# Altium schematic symbol library PCBFeatures.SchLib: 20 symbols
Pins are listed as number, name and electrical type; pins without a type are passive.

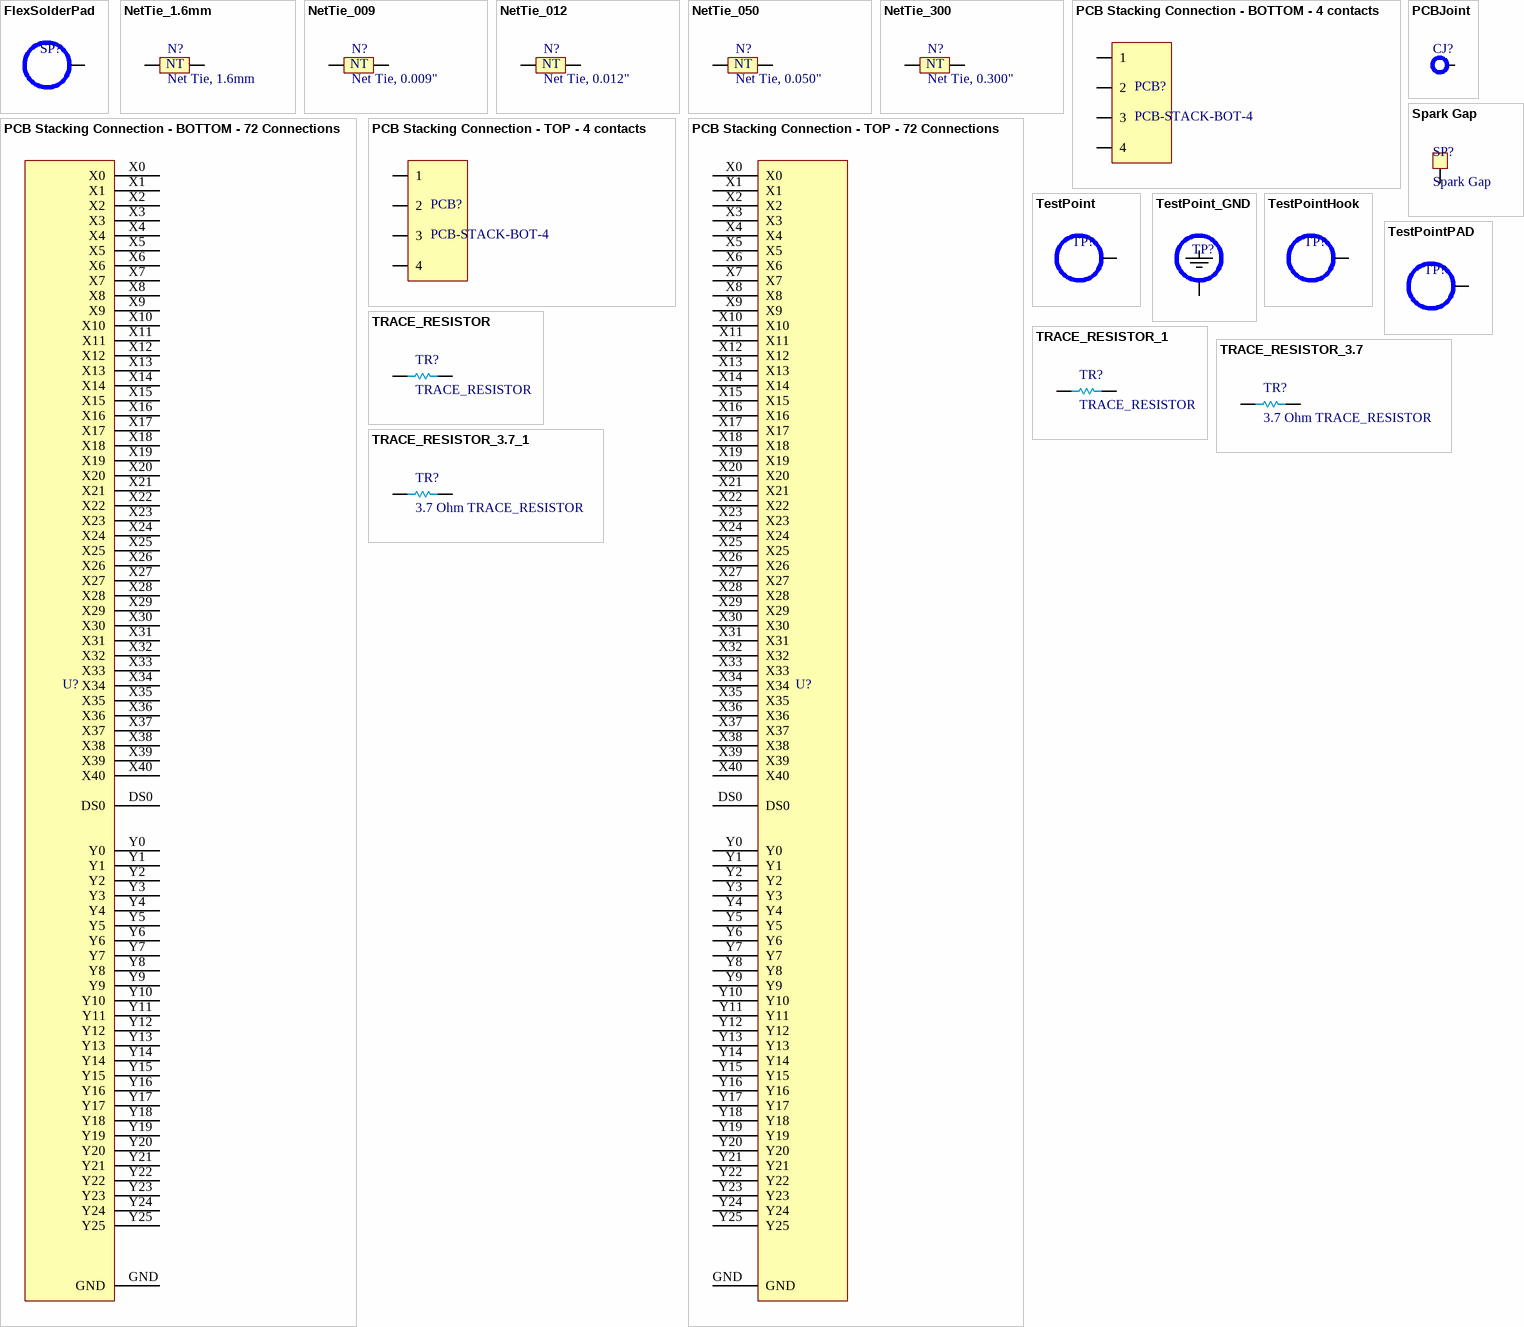
[diagram p0: symbols FlexSolderPad to TRACE_RESISTOR_3.7_1]

## FlexSolderPad
designator SP?  (value not drawn)  (no BOM)
Pad designed for soldering a wire to a flex PCB. Reinforced for durability.
footprint FlexSolderPad
pins: 1

## NetTie_1.6mm
designator N?, comment Net Tie, 1.6mm  (net tie, no BOM)
Net Tie, 1.6mm trace width
footprint NetTie_1.6mm (1.6mm wide net tie)
pins: 1, 2
text: NT

## NetTie_009
designator N?, comment Net Tie, 0.009"  (net tie, no BOM)
Net Tie, 0.009" trace width
footprint NetTie_009 (0.009" wide net tie)
pins: 1, 2
text: NT

## NetTie_012
designator N?, comment Net Tie, 0.012"  (net tie, no BOM)
Net Tie, 0.012" trace width
footprint NetTie_012 (0.012" wide net tie)
pins: 1, 2
text: NT

## NetTie_050
designator N?, comment Net Tie, 0.050"  (net tie, no BOM)
Net Tie, 0.050" trace width
footprint NetTie_050 (0.050" wide net tie)
pins: 1, 2
text: NT

## NetTie_300
designator N?, comment Net Tie, 0.300"  (net tie, no BOM)
Net Tie, 0.300" trace width
footprint NetTie_300 (0.300" wide net tie)
pins: 1, 2
text: NT

## PCB Stacking Connection - BOTTOM - 4 contacts
designator PCB?, comment PCB-STACK-BOT-4  (no BOM)
8mm x 8mm PCB land for stacking and soldering together two PCBs. Makes 4 electrical connections. This part goes on the bottom PCB.
footprint PCB-STACK-BOT-4
pins: 1, 2, 3, 4

## PCB Stacking Connection - BOTTOM - 72 Connections
designator U?
PCB land for stacking and soldering together two PCBs. Makes 72 electrical connections. This part goes on the top side of the bottom PCB.
footprint PCB-STACK-BOTTOM-72
pins: DS0, GND, X0, X1, X2, X3, X4, X5, X6, X7, X8, X9, X10, X11, X12, X13, X14, X15, X16, X17, X18, X19, X20, X21, X22, X23, X24, X25, X26, X27, X28, X29, X30, X31, X32, X33, X34, X35, X36, X37, X38, X39, X40, Y0, Y1, Y2, Y3, Y4, Y5, Y6, Y7, Y8, Y9, Y10, Y11, Y12, Y13, Y14, Y15, Y16, Y17, Y18, Y19, Y20, Y21, Y22, Y23, Y24, Y25

## PCB Stacking Connection - TOP - 4 contacts
designator PCB?, comment PCB-STACK-BOT-4  (no BOM)
8mm x 8mm PCB land for stacking and soldering together two PCBs. Makes 4 electrical connections. This part goes on the top PCB.
footprint PCB-STACK-TOP-4
pins: 1, 2, 3, 4

## PCB Stacking Connection - TOP - 72 Connections
designator U?
PCB land for stacking and soldering together two PCBs. Makes 72 electrical connections. This part goes on the bottom side of the top PCB.
footprint PCB-STACK-TOP-72
pins: DS0, GND, X0, X1, X2, X3, X4, X5, X6, X7, X8, X9, X10, X11, X12, X13, X14, X15, X16, X17, X18, X19, X20, X21, X22, X23, X24, X25, X26, X27, X28, X29, X30, X31, X32, X33, X34, X35, X36, X37, X38, X39, X40, Y0, Y1, Y2, Y3, Y4, Y5, Y6, Y7, Y8, Y9, Y10, Y11, Y12, Y13, Y14, Y15, Y16, Y17, Y18, Y19, Y20, Y21, Y22, Y23, Y24, Y25

## PCBJoint
designator CJ?, comment PCBJointCastellationJoint  (value not drawn)  (no BOM)
Pad for soldering a castellated PCB edge. Easy way to join two PCBs together.
footprint PCBJoint
pins: 1

## Spark Gap
designator SP?  (no BOM)
Open square pad for spark gapping
footprint SparkGap
pins: 1

## TestPoint
designator TP?  (value not drawn)  (no BOM)
footprint TestPoint_1.2
pins: 1

## TestPoint_GND
designator TP?  (value not drawn)  (no BOM)
footprint TestPoint_CLIP
pins: 1

## TestPointHook
designator TP?  (value not drawn)
Test point, SMT ring (micro-hook compatible); Supplier 1: Digi-Key; Supplier Part Number 1: 952-2664-6-ND; Supplier 2: Digi-Key; Supplier Part Number 2: A106144DKR-ND; Supplier 3: Arrow; Supplier Part Number 3: z_4zPAhGJpPHHYBcC24zmONEz5elv0VZALWfNkICq0w
footprint S2751-46R
pins: 1

## TestPointPAD
designator TP?  (value not drawn)  (no BOM)
Test point, pad only (no thru-hole)
footprint TestPoint_1.2_nohole
pins: 1

## TRACE_RESISTOR
designator TR?  (net tie, no BOM)
PCB heater trace, 0.008" x 140", 7-9 Ohms (-40C-25C), 18W max @50C rise
footprint BALANCE_RESISTOR
pins: 1, 2

## TRACE_RESISTOR_1
designator TR?, comment TRACE_RESISTOR  (net tie, no BOM)
PCB heater trace, 0.008" x 140", 7-9 Ohms (-40C-25C), 18W max @50C rise
footprint BALANCE_RESISTOR
pins: 1, 2

## TRACE_RESISTOR_3.7
designator TR?, comment 3.7 Ohm TRACE_RESISTOR  (net tie, no BOM)
PCB heater trace, 0.009" x 68.5", 3.7 Ohms nominal
footprint BALANCE_RESISTOR_3.7
pins: 1, 2

## TRACE_RESISTOR_3.7_1
designator TR?, comment 3.7 Ohm TRACE_RESISTOR  (net tie, no BOM)
PCB heater trace, 0.009" x 68.5", 3.7 Ohms nominal
footprint BALANCE_RESISTOR_3.7
pins: 1, 2